# Altium footprint library HeaderPins_1rows_F_90.PcbLib: 10 footprints
Each footprint in its own frame and in the unit in brackets; x right, y up, seen from the top. Pads: shape width x height; smd on the part's side, far side on the other; paste and mask are expansions set on the pad; w line width, h text height; cw(c..) or ccw(c..) is an arc to the next point about the centre after c.
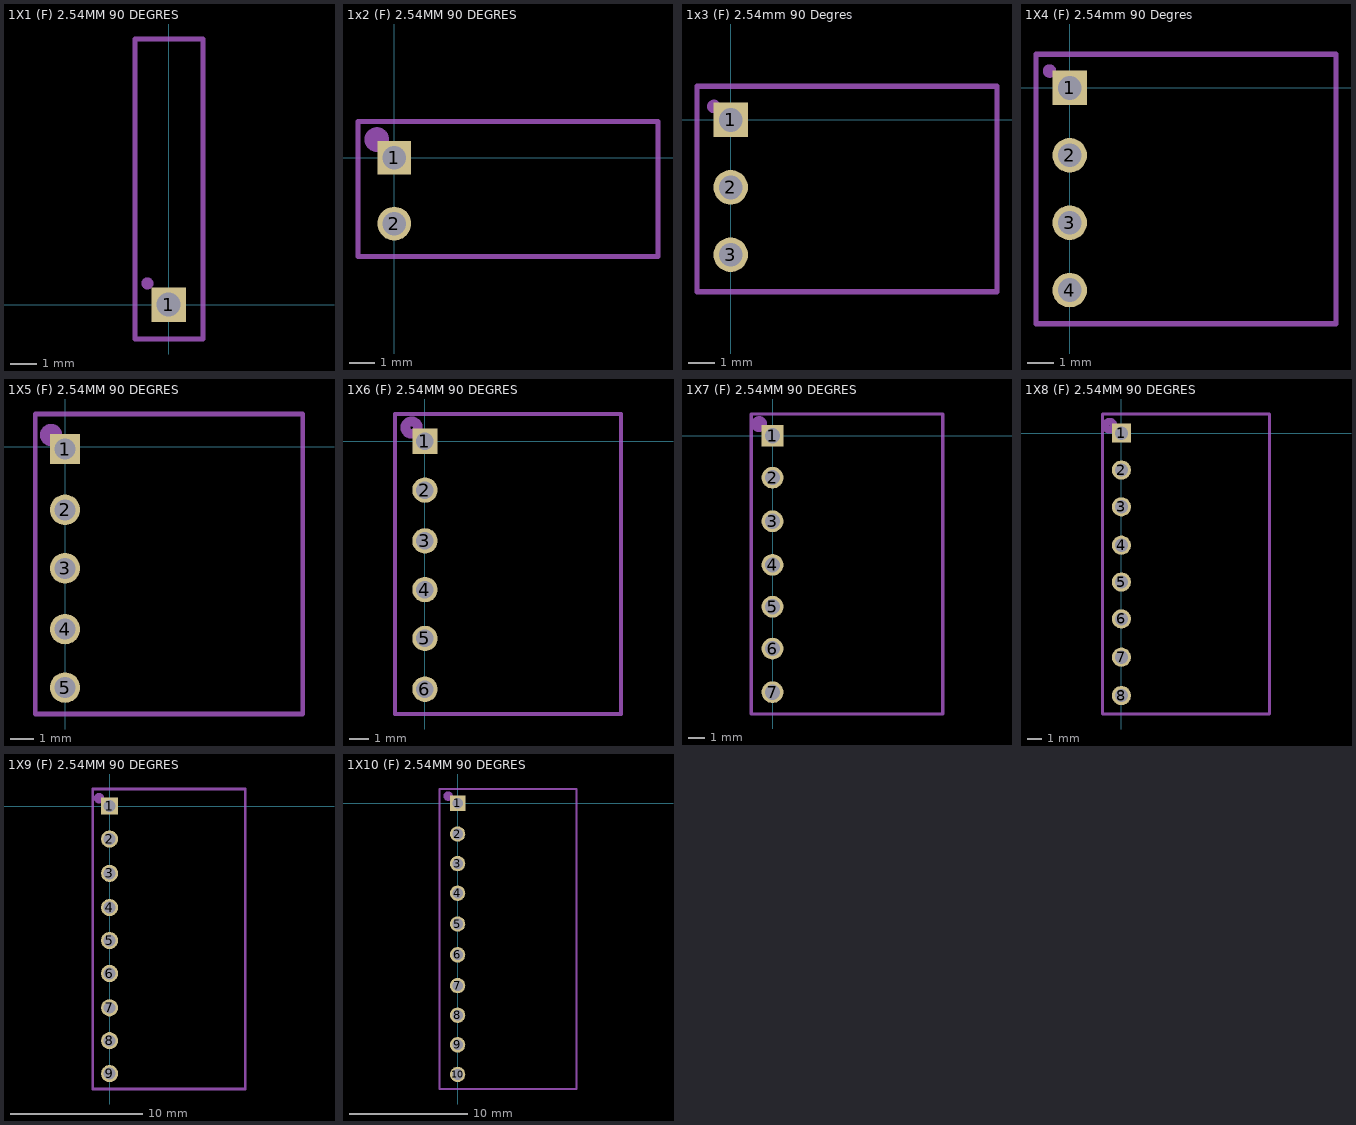
[diagram p0: the footprints below, top view; thin cyan lines are the x and y axes]

## 1X1 (F) 2.54MM 90 DEGRES [mm]
pads (1):
  rect 1.3x1.3 hole 0.9 mask+0.05: 1(0,0)
Mechanical 2:
  circle w0.254: c-0.8,0.8 r0.1
  lines w0.2: -1.27,-1.3 -1.27,10.033 1.3,10.033 1.3,-1.3 -1.27,-1.3
  text ".Designator" at 1.252,-1.255 h1.52
3D body "H254_90deg_1pin.STEP": height 2.67, standoff -3.47, extent -1.27,-0.35 1.27,10.002

## 1x2 (F) 2.54MM 90 DEGRES [mm]
pads (2):
  rect 1.3x1.3 hole 0.9 mask+0.05: 1(0,0)
  round 1.3 hole 0.9 mask+0.05: 2(0,-2.54)
Mechanical 2:
  circle w0.5: c-0.676,0.7 r0.224
  lines w0.2: -1.397,-3.81 -1.397,1.397 10.16,1.397 10.16,-3.81 -1.397,-3.81
  text ".Designator" at 2.334,-3.81 h1
3D body "H254_90deg_2pin.STEP": height 2.67, standoff -3.47, extent -0.3,-3.683 10.051,1.397

## 1x3 (F) 2.54mm 90 Degres [mm]
pads (3):
  rect 1.3x1.3 hole 0.9 mask+0.05: 1(0,0)
  round 1.3 hole 0.9 mask+0.05: 2(0,-2.54) 3(0,-5.08)
Mechanical 2:
  circle w0.254: c-0.635,0.508 r0.127
  lines w0.2: -1.27,-6.477 10.033,-6.477 10.033,1.27 -1.27,1.27 -1.27,-6.477
  text ".Designator" at 3.35,-5.969 h1
3D body "H254_90deg_3pin.STEP": height 2.67, standoff -3.47, extent -0.3,-6.35 10.051,1.27

## 1X4 (F) 2.54mm 90 Degres [mm]
pads (4):
  rect 1.3x1.3 hole 0.9 mask+0.05: 1(0,0)
  round 1.3 hole 0.9 mask+0.05: 2(0,-2.54) 3(0,-5.08) 4(0,-7.62)
Mechanical 2:
  circle w0.254: c-0.762,0.635 r0.127
  lines w0.2: -1.27,-8.89 10.033,-8.89 10.033,1.27 -1.27,1.27 -1.27,-8.89
  text ".Designator" at 2.921,-8.382 h1.52
3D body "H254_90deg_4pin.STEP": height 2.67, standoff -3.47, extent -0.35,-8.763 10.002,1.397

## 1X5 (F) 2.54MM 90 DEGRES [mm]
pads (5):
  rect 1.3x1.3 hole 0.9 mask+0.05: 1(0,-0.1)
  round 1.3 hole 0.9 mask+0.05: 2(0,-2.7) 3(0,-5.2) 4(0,-7.8) 5(0,-10.3)
Mechanical 2:
  circle w0.5: c-0.6,0.5 r0.224
  lines w0.2: -1.27,-11.43 -1.27,1.397 10.16,1.397 10.16,-11.43 -1.27,-11.43
  text ".Designator" at 3.302,-11.43 h1.52
3D body "H254_90deg_5pin.STEP": height 2.67, standoff -3.47, extent -0.254,-11.43 10.097,1.27

## 1X6 (F) 2.54MM 90 DEGRES [mm]
pads (6):
  rect 1.3x1.3 hole 0.9 mask+0.05: 1(0,0)
  round 1.3 hole 0.9 mask+0.05: 2(0,-2.5) 3(0,-5.1) 4(0,-7.6) 5(0,-10.1) 6(0,-12.7)
Mechanical 2:
  circle w0.5: c-0.684,0.7 r0.316
  lines w0.2: -1.524,-13.97 10.033,-13.97 10.033,1.397 -1.524,1.397 -1.524,-13.97
  text ".Designator" at 3.175,-13.843 h1.52
3D body "H254_90deg_6pin.STEP": height 2.67, standoff -3.47, extent -0.381,-13.843 9.97,1.397

## 1X7 (F) 2.54MM 90 DEGRES [mm]
pads (7):
  rect 1.3x1.3 hole 0.9 mask+0.05: 1(0,0)
  round 1.3 hole 0.9 mask+0.05: 2(0,-2.5) 3(0,-5.1) 4(0,-7.7) 5(0,-10.2) 6(0,-12.7) 7(0,-15.3)
Mechanical 2:
  circle w0.5: c-0.8,0.7 r0.224
  lines w0.2: -1.27,-16.6 10.16,-16.6 10.16,1.3 -1.27,1.3 -1.27,-16.6
  text ".Designator" at 4.064,-15.875 h1.52
3D body "H254_90deg_2pin.STEP": height 2.67, standoff -3.47, extent -0.3,-16.51 10.051,-11.43
3D body "H254_90deg_5pin.STEP": height 2.67, standoff -3.47, extent -0.3,-11.43 10.051,1.27

## 1X8 (F) 2.54MM 90 DEGRES [mm]
pads (8):
  rect 1.3x1.3 hole 0.9 mask+0.05: 1(0,0)
  round 1.3 hole 0.9 mask+0.05: 2(0,-2.5) 3(0,-5) 4(0,-7.6) 5(0,-10.1) 6(0,-12.6) 7(0,-15.2) 8(0,-17.8)
Mechanical 2:
  circle w0.5: c-0.8,0.5 r0.283
  lines w0.2: -1.27,-19.05 10.033,-19.05 10.033,1.3 -1.27,1.3 -1.27,-19.05
  text ".Designator" at 6.604,-16.764 h1.52
3D body "H254_90deg_4pin.STEP": height 2.67, standoff -3.47, extent -0.35,-19.05 10.002,-8.89
3D body "H254_90deg_4pin.STEP": height 2.67, standoff -3.47, extent -0.35,-8.89 10.002,1.27

## 1X9 (F) 2.54MM 90 DEGRES [mm]
pads (9):
  rect 1.3x1.3 hole 0.9 mask+0.05: 1(0,0)
  round 1.3 hole 0.9 mask+0.05: 2(0,-2.5) 3(0,-5.1) 4(0,-7.7) 5(0,-10.2) 6(0,-12.7) 7(0,-15.3) 8(0,-17.8) 9(0,-20.3)
Mechanical 2:
  circle w0.5: c-0.8,0.6 r0.141
  lines w0.2: -1.27,-21.463 -1.27,1.3 10.287,1.3 10.287,-21.463 -1.27,-21.463
  text ".Designator" at 5.842,-15.367 h1.52
3D body "H254_90deg_6pin.STEP": height 2.67, standoff -3.47, extent -0.173,-13.843 10.178,1.397
3D body "H254_90deg_3pin.STEP": height 2.67, standoff -3.47, extent -0.173,-21.463 10.178,-13.843

## 1X10 (F) 2.54MM 90 DEGRES [mm]
pads (10):
  rect 1.3x1.3 hole 0.9 mask+0.05: 1(0,0)
  round 1.3 hole 0.9 mask+0.05: 2(0,-2.6) 3(0,-5.1) 4(0,-7.6) 5(0,-10.2) 6(0,-12.8) 7(0,-15.4) 8(0,-17.9) 9(0,-20.4) 10(0,-22.9)
Mechanical 2:
  circle w0.4: c-0.8,0.6 r0.2
  lines w0.2: -1.524,-24.13 -1.524,1.2 10.033,1.2 10.033,-24.13 -1.524,-24.13
  text ".Designator" at 5.969,-17.78 h1.52
3D body "H254_90deg_5pin.STEP": height 2.67, standoff -3.47, extent -0.3,-24.13 10.051,-11.43
3D body "H254_90deg_5pin.STEP": height 2.67, standoff -3.47, extent -0.3,-11.43 10.051,1.27